# EAGLE library part HBRIDGE (library chlk_bot)
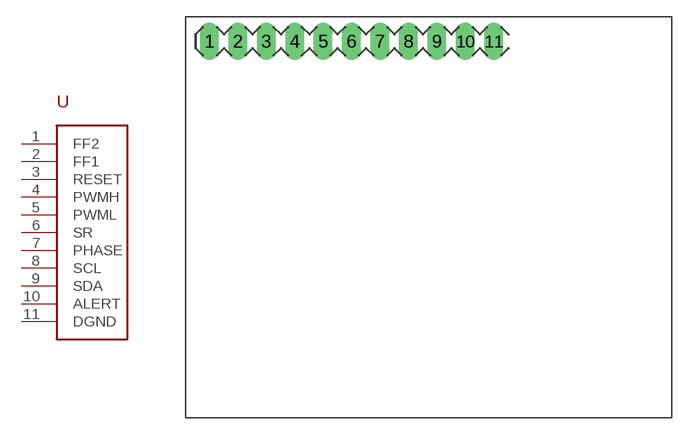
[diagram p14: symbol with the pads of HBRIDGE; footprint HBRIDGE]

Designator prefix -

## HBRIDGE  [HBRIDGE]
1  FF2
2  FF1
3  RESET
4  PWMH
5  PWML
6  SR
7  PHASE
8  SCL
9  SDA
10  ALERT
11  DGND

## Footprint HBRIDGE (pad centres in mm)
drill 1.118 long: 1 1.88,33.63; 2 4.42,33.63; 3 6.96,33.63; 4 9.5,33.63; 5 12.04,33.63; 6 14.58,33.63; 7 17.12,33.63; 8 19.66,33.63; 9 22.2,33.63; 10 24.74,33.63; 11 27.28,33.63